# Altium schematic symbol library ECP5_V2.SchLib: 32 symbols (part 1 of 2)
Pins are listed as number, name and electrical type; pins without a type are passive.

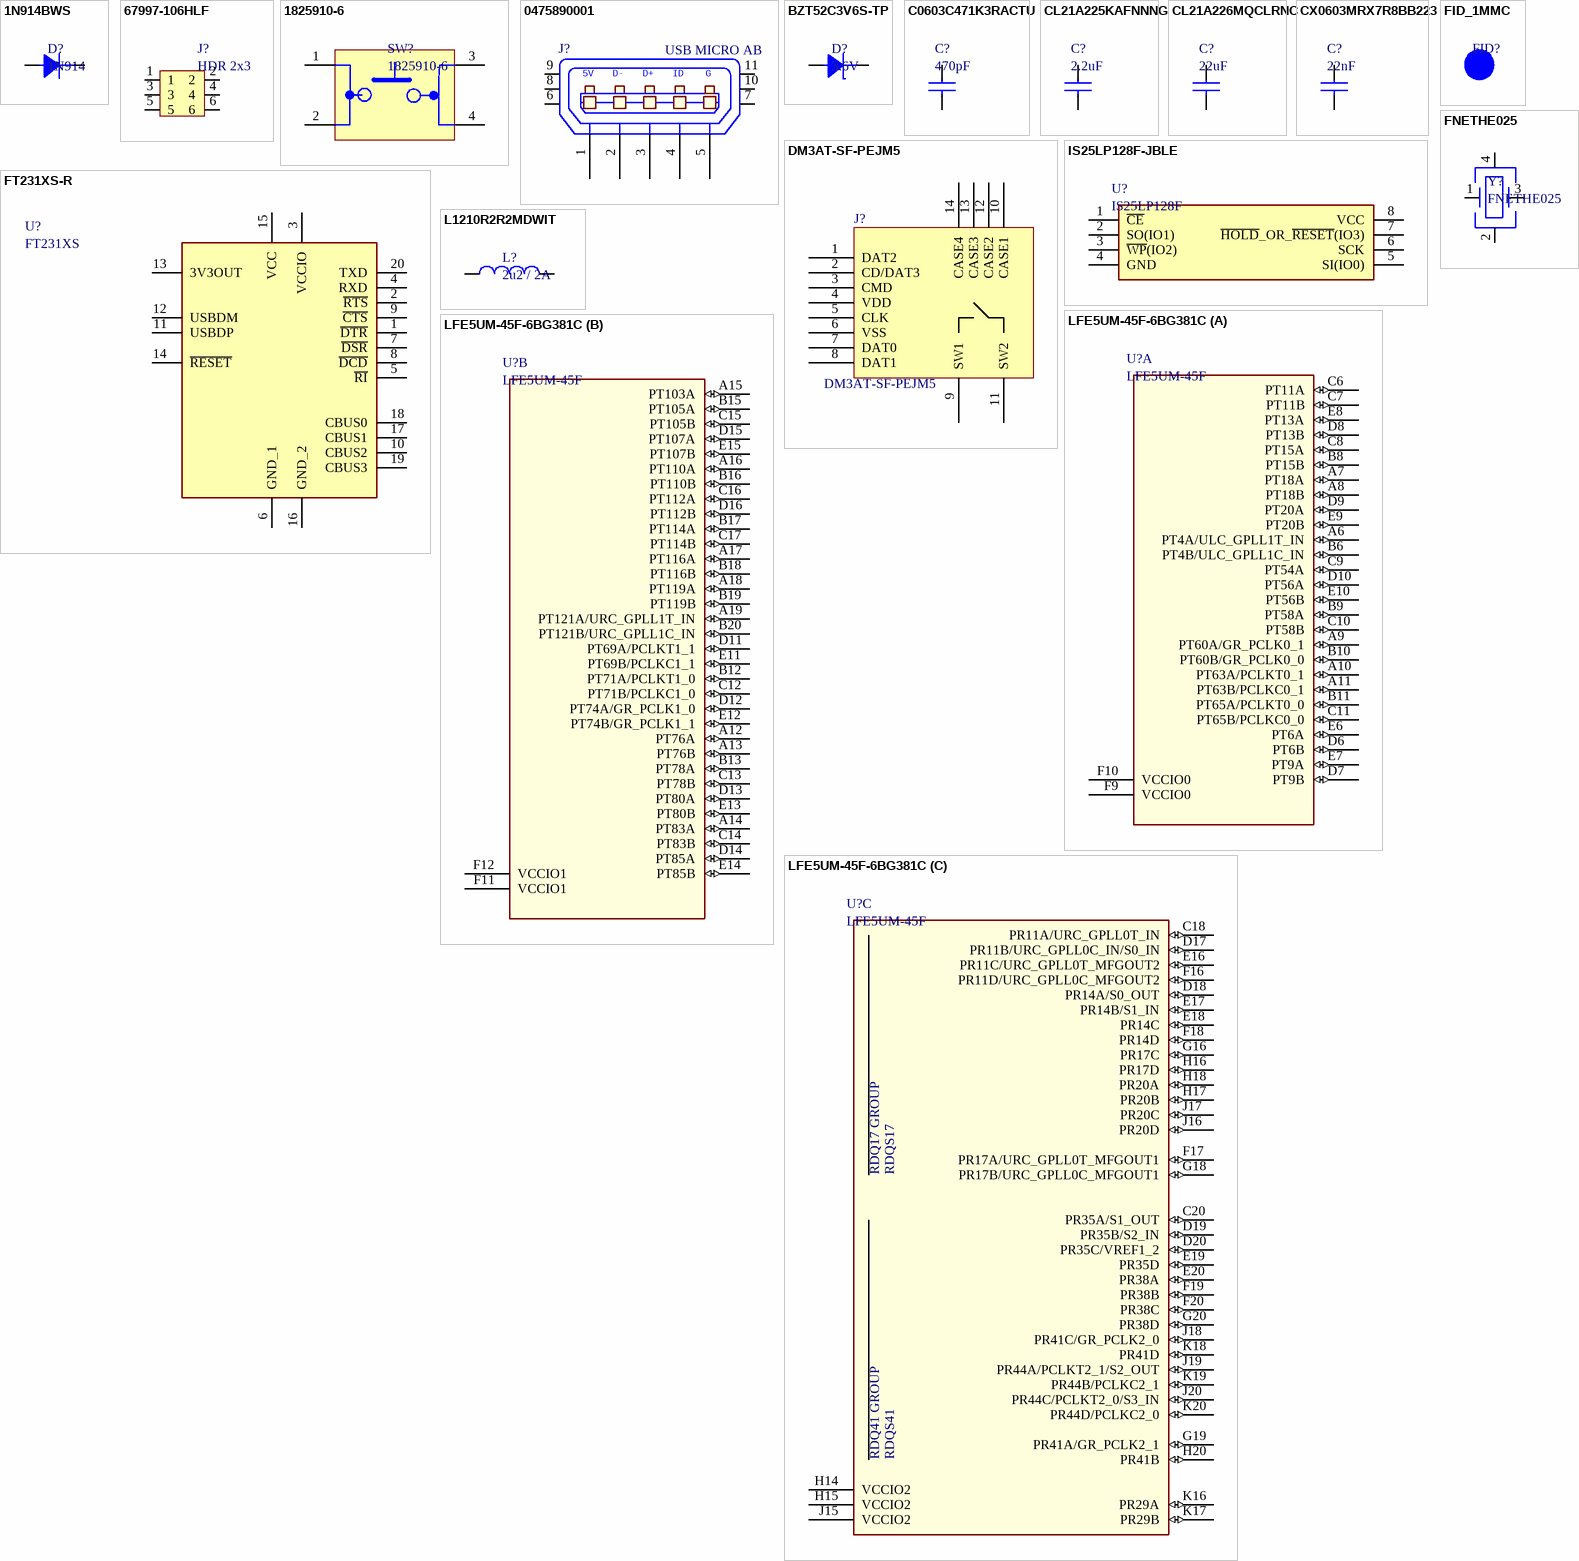
[diagram p0: symbols 1N914BWS to LFE5UM-45F-6BG381C]

## 1N914BWS
designator D?, comment 1N914
ON SEMICONDUCTOR/FAIRCHILD - 1N914BWS. - SMALL SIGNAL DIODE; Forward Current: 150mA; Peak Reverse Current: 5uA; Max Repetitive Reverse Voltage (Vrrm): 75V; Element Configuration: Single; Forward Voltage: 1V; Power Dissipation: 200mW; Reverse Recovery Time: 4ns; Max Forward Surge Current (Ifsm): 4A; Supplier 1: Digi-Key; Manufacturer: ON Semiconductor / Fairchild; Manufacturer Part Number: 1N914BWS; Stock 1: 133438; Pricing 1: 1=0.16, 10=0.147, 25=0.14, 100=0.0616, 250=0.05912, 500=0.04838, 1000=0.0336 (USD); Mount: Surface Mount; Number of Pins: 2; Weight: 0.0276g; Contact Plating: Tin,Matte; Min Operating Temperature: -55°C; Max Operating Temperature: 150°C; Packaging: Tape and Reel; Package Quantity: 1; Average Rectified Current: 150mA; Max Reverse Voltage (DC): 75V; Reverse Voltage: 75V; Recovery Time: 4ns; Length: 1.8mm; Height: 1mm; Width: 1.35mm; Radiation Hardening: No; Lead Free: Lead Free; REACH SVHC: No SVHC; ComponentLink1URL: https://www.fairchildsemi.com/datasheets/1N/1N4148WS.pdf?src-supplier=Digi-Key; ComponentLink1Description: https://www.fairchildsemi.com/datasheets/1N/1N4148WS.pdf?src-supplier=Digi-Key; ComponentLink2URL: https://www.onsemi.com/pub/Collateral/1N914BWS-D.pdf?src-supplier=Digi-Key; ComponentLink2Description: https://www.onsemi.com/pub/Collateral/1N914BWS-D.pdf?src-supplier=Digi-Key; ComponentLink3URL: http://www.fairchildsemi.com/ds/1N/1N914BWS.pdf?src-supplier=Future+Electronics; ComponentLink3Description: http://www.fairchildsemi.com/ds/1N/1N914BWS.pdf?src-supplier=Future+Electronics; ComponentLink4URL: http://www.farnell.com/datasheets/1771770.pdf?src-supplier=Element14; ComponentLink4Description: http://www.farnell.com/datasheets/1771770.pdf?src-supplier=Element14; ComponentLink5URL: https://www.fairchildsemi.com/datasheets/1N/1N914BWS.pdf?src-supplier=Avnet; ComponentLink5Description: https://www.fairchildsemi.com/datasheets/1N/1N914BWS.pdf?src-supplier=Avnet; ComponentLink6URL: http://www.fairchildsemi.com/ds/1N/1N914BWS.pdf?src-supplier=Avnet+Europe; ComponentLink6Description: http://www.fairchildsemi.com/ds/1N/1N914BWS.pdf?src-supplier=Avnet+Europe; Supplier Part Number 1: 1N914BWSDKR-ND
footprint SOD323
pins: 1 Cathode, 2 Anode

## 67997-106HLF
designator J?, comment HDR 2x3
CONN HEADER VERT 6POS 2.54MM; Manufacturer: Amphenol FCI; Manufacturer Part Number: 67997-106HLF; Number of Contacts: 6; Current Rating: 3A; Voltage Rating: 1.5kV; Insulation Resistance: 5GR; Gender: Male; Connector Type: Male Pin; Row Spacing: 0.1inch; Contact Post Length: 3.05mm; Supplier 1: Digi-Key; Stock 1: 906; Pricing 1: 1=1.73, 10=1.568, 100=1.3436, 500=1.11966, 1000=0.9597, 5000=0.85093, 10000=0.83174 (USD); Mount: Through Hole; Contact Plating: Gold,GXT; Contact Material: Bronze; Color: Black; Housing Color: Black; Housing Material: Thermoplastic; Min Operating Temperature: -65°C; Max Operating Temperature: 125°C; Number of Rows: 2; Termination: Through Hole; Packaging: Bulk; Package Quantity: 100; Contact Gender: Male; Number of Positions: 6; Max Voltage Rating (AC): 1.5kV; Orientation: Straight; Length: 7.62mm; Pitch: 2.54mm; Contact Mating Length: 0.23inch; Depth: 4.83mm; Radiation Hardening: No; REACH SVHC: No SVHC; Lead Free: Lead Free; Flammability Rating: UL94 V-0; ComponentLink1URL: https://cdn.amphenol-icc.com/media/wysiwyg/files/drawing/67996.pdf?src-supplier=Avnet; ComponentLink1Description: https://cdn.amphenol-icc.com/media/wysiwyg/files/drawing/67996.pdf?src-supplier=Avnet; ComponentLink2URL: https://cdn.amphenol-icc.com/media/wysiwyg/files/drawing/67996.pdf?src-supplier=Digi-Key; ComponentLink2Description: https://cdn.amphenol-icc.com/media/wysiwyg/files/drawing/67996.pdf?src-supplier=Digi-Key; ComponentLink3URL: https://cdn.amphenol-icc.com/media/wysiwyg/files/drawing/67996.pdf?src-supplier=Mouser; ComponentLink3Description: https://cdn.amphenol-icc.com/media/wysiwyg/files/drawing/67996.pdf?src-supplier=Mouser; ComponentLink4URL: https://cdn.amphenol-icc.com/media/wysiwyg/files/drawing/67996.pdf?src-supplier=Avnet+Europe; ComponentLink4Description: https://cdn.amphenol-icc.com/media/wysiwyg/files/drawing/67996.pdf?src-supplier=Avnet+Europe; Supplier Part Number 1: 609-3393-ND
footprint HDR_2x3_2.54MM
pins: 1, 2, 3, 4, 5, 6

## 1825910-6
designator SW?
ALCOSWITCH - TE CONNECTIVITY - 1825910-6 - TACT SWITCH, SPST, 0.05A, 24VDC, SOLDER; Manufacturer: TE Connectivity Alcoswitch; Actuator Material: PBT; Mechanical Life: 100000Cycles; Operating Force: 160gf; Illumination Type: Non-Illuminated,Illuminated; Switch Travel: 0.25mm; Switch Function: Off-Mom; Actuator Type: Standard; Max Voltage Rating (DC): 24V; Contact Current Rating: 50mA; Contact Resistance: 100mR; Actuator Length: 0.055inch; Supplier 1: Digi-Key; Manufacturer Part Number: 1825910-6; Stock 1: 40831; Pricing 1: 1=0.1, 10=0.101, 25=0.0976, 50=0.094, 100=0.0888, 250=0.08352, 500=0.08006, 1000=0.06091, 5000=0.05047 (USD); Mount: Through Hole; Contact Material: Copper Alloy; Contact Plating: Silver; Min Operating Temperature: -35°C; Max Operating Temperature: 85°C; Termination: PC Pins; Throw Configuration: SPST; Package Quantity: 750; Packaging: Loose Piece; Orientation: Straight; Electrical Life: 100000Cycles; Type: Switch; Max Current Rating: 50mA; Length: 5.99mm; REACH SVHC: Unknown; ELV: Compliant; Lead Free: Lead Free; ComponentLink1URL: http://www.onlinecomponents.com/productFiles/mf-AMP/1825910-6rqpn1825910-6.pdf?src-supplier=Onlinecomponents.com; ComponentLink1Description: http://www.onlinecomponents.com/productFiles/mf-AMP/1825910-6rqpn1825910-6.pdf?src-supplier=Onlinecomponents.com; ComponentLink2URL: http://www.te.com/commerce/DocumentDelivery/DDEController?Action=srchrtrv&DocNm=1825910&DocType=Customer+Drawing&DocLang=English&src-supplier=Verical; ComponentLink2Description: http://www.te.com/commerce/DocumentDelivery/DDEController?Action=srchrtrv&DocNm=1825910&DocType=Customer+Drawing&DocLang=English&src-supplier=Verical; Supplier Part Number 1: 450-1650-ND
footprint 1825910-6
pins: 1, 2, 3, 4

## 0475890001
designator J?, comment USB MICRO AB
CONN RCPT MICRO USB AB R/A SMD; Manufacturer: Molex Inc; Manufacturer Part Number: 0475890001; Connector Type: USB - micro AB; Number of Contacts: 5; Gender: Receptacle; .Creator: MM; Supplier 1: Digi-Key; RoHS: RoHS Compliant; Category: Connectors, Interconnects; Stock 1: 12754; Pricing 1: 1=0.81, 10=0.764, 25=0.6872, 50=0.6108, 100=0.5854, 250=0.53452, 500=0.50908 (USD); Packaging: Cut Tape (CT); Specifications: -; Mounting Type: Surface Mount, Right Angle, Horizontal; Features: Board Guide, Shielded; Ingress Protection: -; ComponentLink1URL: http://www.molex.com/pdm_docs/sd/475890001_sd.pdf; ComponentLink1Description: http://www.molex.com/pdm_docs/sd/475890001_sd.pdf; Supplier Part Number 1: WM17143CT-ND; .Checked PCB: MM; .Checked SCH: MM
footprint USB_Micro_AB (Creator MM)
pins: 1 P1, 2 P2, 3 P3, 4 P4, 5 P5, 6, 7, 8, 9, 10, 11
text: 5V; D-; D+; ID; G

## BZT52C3V6S-TP
designator D?, comment 3.6V
Diode Zener Single 3.6V 5% 200mW 2-Pin SOD-323 T/R; Manufacturer: MCC; Manufacturer Part Number: BZT52C3V6S-TP; Tolerance: 6%; Impedance: 90R; Max Reverse Leakage Current: 15uA; Test Current: 5mA; Supplier 1: Digi-Key; Stock 1: 5023; Pricing 1: 1=0.26, 10=0.215, 25=0.18, 100=0.088, 250=0.0866, 500=0.0734, 1000=0.051 (USD); Mount: Surface Mount; Number of Pins: 2; Min Operating Temperature: -65°C; Max Operating Temperature: 175°C; Package Quantity: 3000; Packaging: Tape and Reel; Zener Voltage: 3.6V; Max Power Dissipation: 200mW; Power Dissipation: 200mW; Voltage Tolerance: 5%; Element Configuration: Single; Power Rating: 200mW; Voltage Rating (DC): 3.6V; Lead Free: Lead Free; ComponentLink1URL: http://www.mccsemi.com/up_pdf/BZT52C2V4S~BZT52C39S(200mW)(SOD323).pdf?src-supplier=Digi-Key; ComponentLink1Description: http://www.mccsemi.com/up_pdf/BZT52C2V4S~BZT52C39S(200mW)(SOD323).pdf?src-supplier=Digi-Key; ComponentLink2URL: http://www.mouser.com/ds/2/258/BZT52C2V4S~BZT52C39S(200mW)(SOD323)-479732.pdf?src-supplier=Mouser; ComponentLink2Description: http://www.mouser.com/ds/2/258/BZT52C2V4S~BZT52C39S(200mW)(SOD323)-479732.pdf?src-supplier=Mouser; ComponentLink3URL: http://components.arrow.com/part/dataview/45991456S304003N2022?src-supplier=Arrow; ComponentLink3Description: http://components.arrow.com/part/dataview/45991456S304003N2022?src-supplier=Arrow; Supplier Part Number 1: BZT52C3V6S-TPMSDKR-ND
footprint SOD323
pins: 1 Cathode, 2 Anode

## C0603C471K3RACTU
designator C?, comment 470pF
KEMET - C0603C471K3RACTU - SMD Multilayer Ceramic Capacitor, 470 pF, 25 V, 0603 [1608 Metric], ± 10%, X7R, C Series KEMET; Voltage Rating: 25V; Supplier 1: Digi-Key; Manufacturer: KEMET; Manufacturer Part Number: C0603C471K3RACTU; Stock 1: 28906; Pricing 1: 1=0.1, 10=0.067, 100=0.0298, 500=0.02126, 1000=0.0167 (USD); Mount: Surface Mount; Case/Package: 0603; Case Code (Metric): 1608; Case Code (Imperial): 0603; Dielectric Material: Ceramic; Min Operating Temperature: -55°C; Max Operating Temperature: 125°C; Package Quantity: 4000; Capacitance: 470pF; Tolerance: 10%; Packaging: Tape and Reel; Voltage Rating (DC): 25V; Dielectric: X7R; Termination: SMD/SMT; Length: 1.6mm; Height: 0.8mm; Width: 0.031inch; Thickness: 0.034inch; Lead Pitch: 0.7mm; Depth: 0.8mm; Radiation Hardening: No; REACH SVHC: No SVHC; ComponentLink1URL: http://www.farnell.com/datasheets/2064971.pdf?src-supplier=Element14; ComponentLink1Description: http://www.farnell.com/datasheets/2064971.pdf?src-supplier=Element14; ComponentLink2URL: http://www.farnell.com/datasheets/2746078.pdf?src-supplier=Farnell; ComponentLink2Description: http://www.farnell.com/datasheets/2746078.pdf?src-supplier=Farnell; ComponentLink3URL: https://api.kemet.com/component-edge/download/datasheet/C0603C471K3RACTU.pdf?src-supplier=Digi-Key; ComponentLink3Description: https://api.kemet.com/component-edge/download/datasheet/C0603C471K3RACTU.pdf?src-supplier=Digi-Key; ComponentLink4URL: http://components.arrow.com/part/dataview/2089229S9467247N7429?src-supplier=Arrow; ComponentLink4Description: http://components.arrow.com/part/dataview/2089229S9467247N7429?src-supplier=Arrow; ComponentLink5URL: http://www.mouser.com/ds/2/212/KEM_C1002_X7R_SMD-1102033.pdf?src-supplier=Mouser; ComponentLink5Description: http://www.mouser.com/ds/2/212/KEM_C1002_X7R_SMD-1102033.pdf?src-supplier=Mouser; ComponentLink6URL: http://www.farnell.com/datasheets/2746078.pdf?src-supplier=Newark; ComponentLink6Description: http://www.farnell.com/datasheets/2746078.pdf?src-supplier=Newark; ComponentLink7URL: http://components.arrow.com/part/dataview/0323_00323242?src-supplier=Arrow+Europe; ComponentLink7Description: http://components.arrow.com/part/dataview/0323_00323242?src-supplier=Arrow+Europe; Supplier Part Number 1: 399-9086-6-ND
footprint C0603
pins: 1, 2

## CL21A225KAFNNNG
designator C?, comment 2.2uF
Ceramic capacitor SMD 0805 2.2 µF 25 V 10 %; Manufacturer: Samsung; Manufacturer Part Number: CL21A225KAFNNNG; Voltage Rating: 25V; Tolerance: 10%; Supplier 1: Digi-Key; Stock 1: 303381; Pricing 1: 1=0.15, 10=0.11, 100=0.0517, 500=0.03626, 1000=0.03002 (USD); Mount: Surface Mount; Case/Package: 0805; Case Code (Metric): 2012; Case Code (Imperial): 0805; Material: Ceramic; Min Operating Temperature: -55°C; Max Operating Temperature: 85°C; Package Quantity: 3000; Packaging: Tape and Reel; Capacitance: 2.2uF; Length: 0.079inch; Width: 0.049inch; Thickness: 0.053inch; ComponentLink1URL: http://www.samsungsem.com/global/support/library/product-catalog/__icsFiles/afieldfile/2014/11/13/MLCC.pdf?src-supplier=Digi-Key; ComponentLink1Description: http://www.samsungsem.com/global/support/library/product-catalog/__icsFiles/afieldfile/2014/11/13/MLCC.pdf?src-supplier=Digi-Key; ComponentLink2URL: https://produktinfo.conrad.com/datenblaetter/450000-474999/455579-da-01-en-VS_KONDENSATOR_0805.pdf?src-supplier=Conrad; ComponentLink2Description: https://produktinfo.conrad.com/datenblaetter/450000-474999/455579-da-01-en-VS_KONDENSATOR_0805.pdf?src-supplier=Conrad; Supplier Part Number 1: 1276-6458-6-ND
footprint C0805
pins: 1, 2

## CL21A226MQCLRNC
designator C?, comment 22uF
CAP CER 22UF 6.3V X5R 0805; Manufacturer: Samsung; Manufacturer Part Number: CL21A226MQCLRNC; Tolerance: 20%; Supplier 1: Digi-Key; Stock 1: 271195; Pricing 1: 1=0.36, 10=0.247, 100=0.1484, 500=0.11132, 1000=0.09401 (USD); Mount: Surface Mount; Case/Package: 0805; Case Code (Metric): 2012; Case Code (Imperial): 0805; Min Operating Temperature: -55°C; Max Operating Temperature: 85°C; Capacitance: 22uF; Dielectric: X5R; Package Quantity: 1; Packaging: Tape and Reel; Voltage Rating: 6.3V; Length: 2mm; Height: 0.85mm; Depth: 1.25mm; Width: 0.049inch; Thickness: 0.037inch; Radiation Hardening: No; Lead Free: Lead Free; ComponentLink1URL: http://www.samsungsem.com/kr/support/product-search/mlcc/CL21A226MQCLRNC.jsp?src-supplier=Digi-Key; ComponentLink1Description: http://www.samsungsem.com/kr/support/product-search/mlcc/CL21A226MQCLRNC.jsp?src-supplier=Digi-Key; Supplier Part Number 1: 1276-2413-6-ND
footprint C0805
pins: 1, 2

## CX0603MRX7R8BB223
designator C?, comment 22nF
Feed Through Capacitors 22nF X7R 20% 25V; Manufacturer: Yageo; Manufacturer Part Number: CX0603MRX7R8BB223; Supplier 1: Digi-Key; Stock 1: 11069; Pricing 1: 1=0.92, 10=0.676, 100=0.4636, 500=0.36702, 1000=0.30907 (USD); Mount: Surface Mount; Case/Package: 0603; Number of Pins: 2; Case Code (Metric): 1608; Case Code (Imperial): 0603; Min Operating Temperature: -55°C; Max Operating Temperature: 125°C; Capacitance: 22nF; Tolerance: 20%; Voltage Rating: 25V; Package Quantity: 1; Packaging: Tape and Reel; Voltage Rating (DC): 25V; Dielectric: X7R; Termination: SMD/SMT; Length: 0.063inch; Height: 0.65mm; Width: 0.034inch; Thickness: 0.03inch; REACH SVHC: No SVHC; Lead Free: Lead Free; ComponentLink1URL: http://www.yageo.com/NewPortal/_en/search/productDocs.jsp?YageoPartNumber=CX0603MRX7R8BB223&src-supplier=Digi-Key; ComponentLink1Description: http://www.yageo.com/NewPortal/_en/search/productDocs.jsp?YageoPartNumber=CX0603MRX7R8BB223&src-supplier=Digi-Key; Supplier Part Number 1: 311-1234-6-ND
footprint C0603
pins: 1, 2

## DM3AT-SF-PEJM5
designator J?
CONN MICRO SD R/A PUSH-PUSH SMD; Manufacturer: Hirose Electric Co Ltd; .Checked PCB: MM; Connector Type: Connector and Ejector; Card Type: Secure Digital - microSD TransFlash; Number of Positions: 10 (8 + 2); Insertion, Removal Method: Push In, Push Out; .Checked SCH: MM; Category: Connectors, Interconnects; Supplier Part Number: HR1964CT-ND; Family: Memory - PC Card Connectors; Manufacturer Part Number: DM3AT-SF-PEJM5; Price 1k [$]: 1.85200; Supplier: Digikey; Supplier 1: Digi-Key; Supplier Part Number 1: HR1964CT-ND; RoHS: RoHS Compliant; Stock 1: 7044; Pricing 1: 1=2.96, 10=2.457, 50=2.0476, 100=1.82, 250=1.5106, 500=1.365 (USD); Ejector Side: -; Mounting Type: Surface Mount, Right Angle; Features: Switch; Height Above Board: 0.066" (1.68mm); Mounting Feature: Normal, Standard - Top; Packaging: Cut Tape (CT); Contact Finish: Gold; Contact Finish Thickness: -; ComponentLink1URL: http://www.hirose.co.jp/cataloge_hp/e60900232.pdf; ComponentLink1Description: http://www.hirose.co.jp/cataloge_hp/e60900232.pdf
footprint uSD_DM3AT (MM added 3D model & asmbly layer.)
pins: 1 DAT2, 2 CD/DAT3, 3 CMD, 4 VDD, 5 CLK, 6 VSS, 7 DAT0, 8 DAT1, 9 SW1, 10 CASE1, 11 SW2, 12 CASE2, 13 CASE3, 14 CASE4

## FID_1MMC
designator FID?  (value not drawn)  (no BOM)
Fiducial 40mil Diameter 120mil Mask
footprint FID_40x120D

## FNETHE025
designator Y?
SMD Crystal Oscillator 25MHz 3.3V 15pF 4-Pin CSMD; Manufacturer: Diodes; Frequency Stability: 25ppm; Max Supply Voltage: 3.63V; Min Supply Voltage: 2.97V; Max Supply Current: 15mA; Supplier 1: Digi-Key; Manufacturer Part Number: FNETHE025; Stock 1: 7023; Pricing 1: 1=1.1, 10=0.97, 50=0.9068, 100=0.8014, 500=0.75924 (USD); Mount: Surface Mount; Case/Package: CSMD; Number of Pins: 4; Min Operating Temperature: -20°C; Max Operating Temperature: 70°C; Frequency: 25MHz; Load Capacitance: 15pF; Operating Supply Voltage: 3.3V; Packaging: Tape and Reel; Package Quantity: 1000; Termination: SMD/SMT; Length: 7mm; Height: 0.061inch; Width: 0.197inch; Depth: 5mm; Radiation Hardening: No; Lead Free: Lead Free; ComponentLink1URL: http://www.pericom.com/assets/Datasheets/FNETHE025.pdf?src-supplier=Avnet+Europe; ComponentLink1Description: http://www.pericom.com/assets/Datasheets/FNETHE025.pdf?src-supplier=Avnet+Europe; ComponentLink2URL: https://www.verical.com/server-webapp/html/getDatasheet?partID=362555&src-supplier=Verical; ComponentLink2Description: https://www.verical.com/server-webapp/html/getDatasheet?partID=362555&src-supplier=Verical; ComponentLink3URL: http://www.pericom.com/assets/Datasheets/FNETHE025-Rev-E.pdf?src-supplier=Future+Electronics; ComponentLink3Description: http://www.pericom.com/assets/Datasheets/FNETHE025-Rev-E.pdf?src-supplier=Future+Electronics; ComponentLink4URL: https://www.diodes.com/assets/Datasheets/FNETHE025.pdf?src-supplier=Digi-Key; ComponentLink4Description: https://www.diodes.com/assets/Datasheets/FNETHE025.pdf?src-supplier=Digi-Key; ComponentLink5URL: https://media.digikey.com/pdf/Data%20Sheets/Diodes%20PDFs/FNETHE025.pdf?src-supplier=Digi-Key; ComponentLink5Description: https://media.digikey.com/pdf/Data%20Sheets/Diodes%20PDFs/FNETHE025.pdf?src-supplier=Digi-Key; ComponentLink6URL: http://www.pericom.com/assets/Datasheets/FNETHE025.pdf?src-supplier=Avnet; ComponentLink6Description: http://www.pericom.com/assets/Datasheets/FNETHE025.pdf?src-supplier=Avnet; Supplier Part Number 1: FNETHE025DKR-ND
footprint TSOP440P690X140-4N (TSOP, 4-Leads, Body 5.00x7.00mm, Pitch 4.40mm, IPC Medium Density)
pins: 1, 2, 3, 4

## FT231XS-R
designator U?, comment FT231XS
FTDI - FT231XS-R - USB Interface, Transceiver, USB 2.0, 2.97 V, 5.5 V, SSOP, 20 RoHS Compliant: Yes; Max Supply Voltage: 5.5V; Min Supply Voltage: 2.97V; Number of Channels: 1; Operating Supply Voltage: 5V; Data Rate: 12Mbps; Interface: UART,USB; Operating Supply Current: 8mA; Supplier 1: Digi-Key; Manufacturer: FTDI; Manufacturer Part Number: FT231XS-R; Stock 1: 6035; Pricing 1: 1=2.12, 25=2.05, 100=1.98, 250=1.78, 500=1.6, 1000=1.55 (USD); Mount: Surface Mount; Case/Package: SSOP; Number of Pins: 20; Weight: 0.016oz; Min Operating Temperature: -40°C; Max Operating Temperature: 85°C; Packaging: Tape and Reel; Package Quantity: 2000; Length: 8.74mm; Height: 0.059inch; Width: 0.157inch; Radiation Hardening: No; ComponentLink1URL: http://uk.rs-online.com/webdocs/1102/0900766b811020d3.pdf?src-supplier=RSComponents; ComponentLink1Description: http://uk.rs-online.com/webdocs/1102/0900766b811020d3.pdf?src-supplier=RSComponents; ComponentLink2URL: https://media.digikey.com/pdf/Data%20Sheets/FTDI%20Chip%20PDFs/X-Chip_Series_Errata.pdf?src-supplier=Digi-Key; ComponentLink2Description: https://media.digikey.com/pdf/Data%20Sheets/FTDI%20Chip%20PDFs/X-Chip_Series_Errata.pdf?src-supplier=Digi-Key; ComponentLink3URL: http://www.ftdichip.com/Support/Documents/DataSheets/ICs/DS_FT231X.pdf?src-supplier=Digi-Key; ComponentLink3Description: http://www.ftdichip.com/Support/Documents/DataSheets/ICs/DS_FT231X.pdf?src-supplier=Digi-Key; ComponentLink4URL: http://www.alliedelec.com/images/products/datasheets/bm/FTDI/70403932.pdf?src-supplier=Allied+Electronics; ComponentLink4Description: http://www.alliedelec.com/images/products/datasheets/bm/FTDI/70403932.pdf?src-supplier=Allied+Electronics; Supplier Part Number 1: 768-1129-6-ND
footprint SOP64P599X175-20N
pins: 1 ~{DTR}, 2 ~{RTS}, 3 VCCIO, 4 RXD, 5 ~{RI}, 6 GND_1, 7 ~{DSR}, 8 ~{DCD}, 9 ~{CTS}, 10 CBUS2, 11 USBDP, 12 USBDM, 13 3V3OUT, 14 ~{RESET}, 15 VCC, 16 GND_2, 17 CBUS1, 18 CBUS0, 19 CBUS3, 20 TXD

## IS25LP128F-JBLE
designator U?, comment IS25LP128F
IC FLASH 128M SPI 133MHZ 8SOIC; Manufacturer: ISSI; Manufacturer Part Number: IS25LP128F-JBLE; Memory Type: Non-Volatile,FLASH; Memory Size: 128Mb; Supplier 1: Digi-Key; Stock 1: 0; Pricing 1: 540=1.7662 (USD); Mount: Surface Mount; Case/Package: SOIC; Min Operating Temperature: -40°C; Max Operating Temperature: 105°C; Frequency: 133MHz; ComponentLink1URL: http://www.farnell.com/datasheets/2625717.pdf?src-supplier=Farnell; ComponentLink1Description: http://www.farnell.com/datasheets/2625717.pdf?src-supplier=Farnell; ComponentLink2URL: http://www.farnell.com/datasheets/2625717.pdf?src-supplier=Newark; ComponentLink2Description: http://www.farnell.com/datasheets/2625717.pdf?src-supplier=Newark; ComponentLink3URL: http://www.issi.com/WW/pdf/25LP-WP128F.pdf?src-supplier=Digi-Key; ComponentLink3Description: http://www.issi.com/WW/pdf/25LP-WP128F.pdf?src-supplier=Digi-Key; Supplier Part Number 1: IS25LP128F-JBLE-ND
footprint SOIC127P790X216-8N
pins: 1 ~{CE}, 2 SO(IO1), 3 ~{WP}(IO2), 4 GND, 5 SI(IO0), 6 SCK, 7 ~{HOLD}_OR_~{RESET}(IO3), 8 VCC

## L1210R2R2MDWIT
designator L?, comment 2u2 / 2A
FIXED IND 2.2UH 2A 80 MOHM SMD; Manufacturer: KEMET; Manufacturer Part Number: L1210R2R2MDWIT; Core Material: Ferrite; Tolerance: 20%; Shielding: Unshielded; Self Resonant Frequency: 190MHz; DC Resistance (DCR): 80mR; Test Frequency: 100kHz; DC Current: 1.13A; Supplier 1: Digi-Key; Stock 1: 2998; Pricing 1: 1=0.55, 10=0.479, 100=0.3421, 500=0.28738 (USD); Mount: Surface Mount; Case/Package: 1210; Case Code (Metric): 3225; Case Code (Imperial): 1210; Min Operating Temperature: -40°C; Max Operating Temperature: 105°C; Inductance: 2.2uH; Max DC Current: 2A; Package Quantity: 1000; Current Rating: 2A; Packaging: Tape and Reel; Inductance Tolerance: 20%; Composition: Wirewound,Ceramic; Termination: SMD/SMT; Military Standard: Not; Length: 0.126inch; Height: 2.5mm; Width: 0.098inch; Height - Seated (Max): 0.106inch; Depth: 2.7mm; Radiation Hardening: No; REACH SVHC: No SVHC; ComponentLink1URL: https://content.kemet.com/datasheets/F3115.pdf?src-supplier=Mouser; ComponentLink1Description: https://content.kemet.com/datasheets/F3115.pdf?src-supplier=Mouser; ComponentLink2URL: https://content.kemet.com/datasheets/F3115.pdf?src-supplier=Avnet+Europe; ComponentLink2Description: https://content.kemet.com/datasheets/F3115.pdf?src-supplier=Avnet+Europe; ComponentLink3URL: http://www.farnell.com/datasheets/27262.pdf?src-supplier=Element14; ComponentLink3Description: http://www.farnell.com/datasheets/27262.pdf?src-supplier=Element14; ComponentLink4URL: https://api.kemet.com/component-edge/download/datasheet/L1210R2R2MDWIT.pdf?src-supplier=Digi-Key; ComponentLink4Description: https://api.kemet.com/component-edge/download/datasheet/L1210R2R2MDWIT.pdf?src-supplier=Digi-Key; ComponentLink5URL: http://www.kemet.com/Lists/ProductCatalog/Attachments/57/F3115.pdf?src-supplier=Avnet; ComponentLink5Description: http://www.kemet.com/Lists/ProductCatalog/Attachments/57/F3115.pdf?src-supplier=Avnet; Supplier Part Number 1: 399-9598-6-ND
footprint C1210_IND
pins: 1, 2

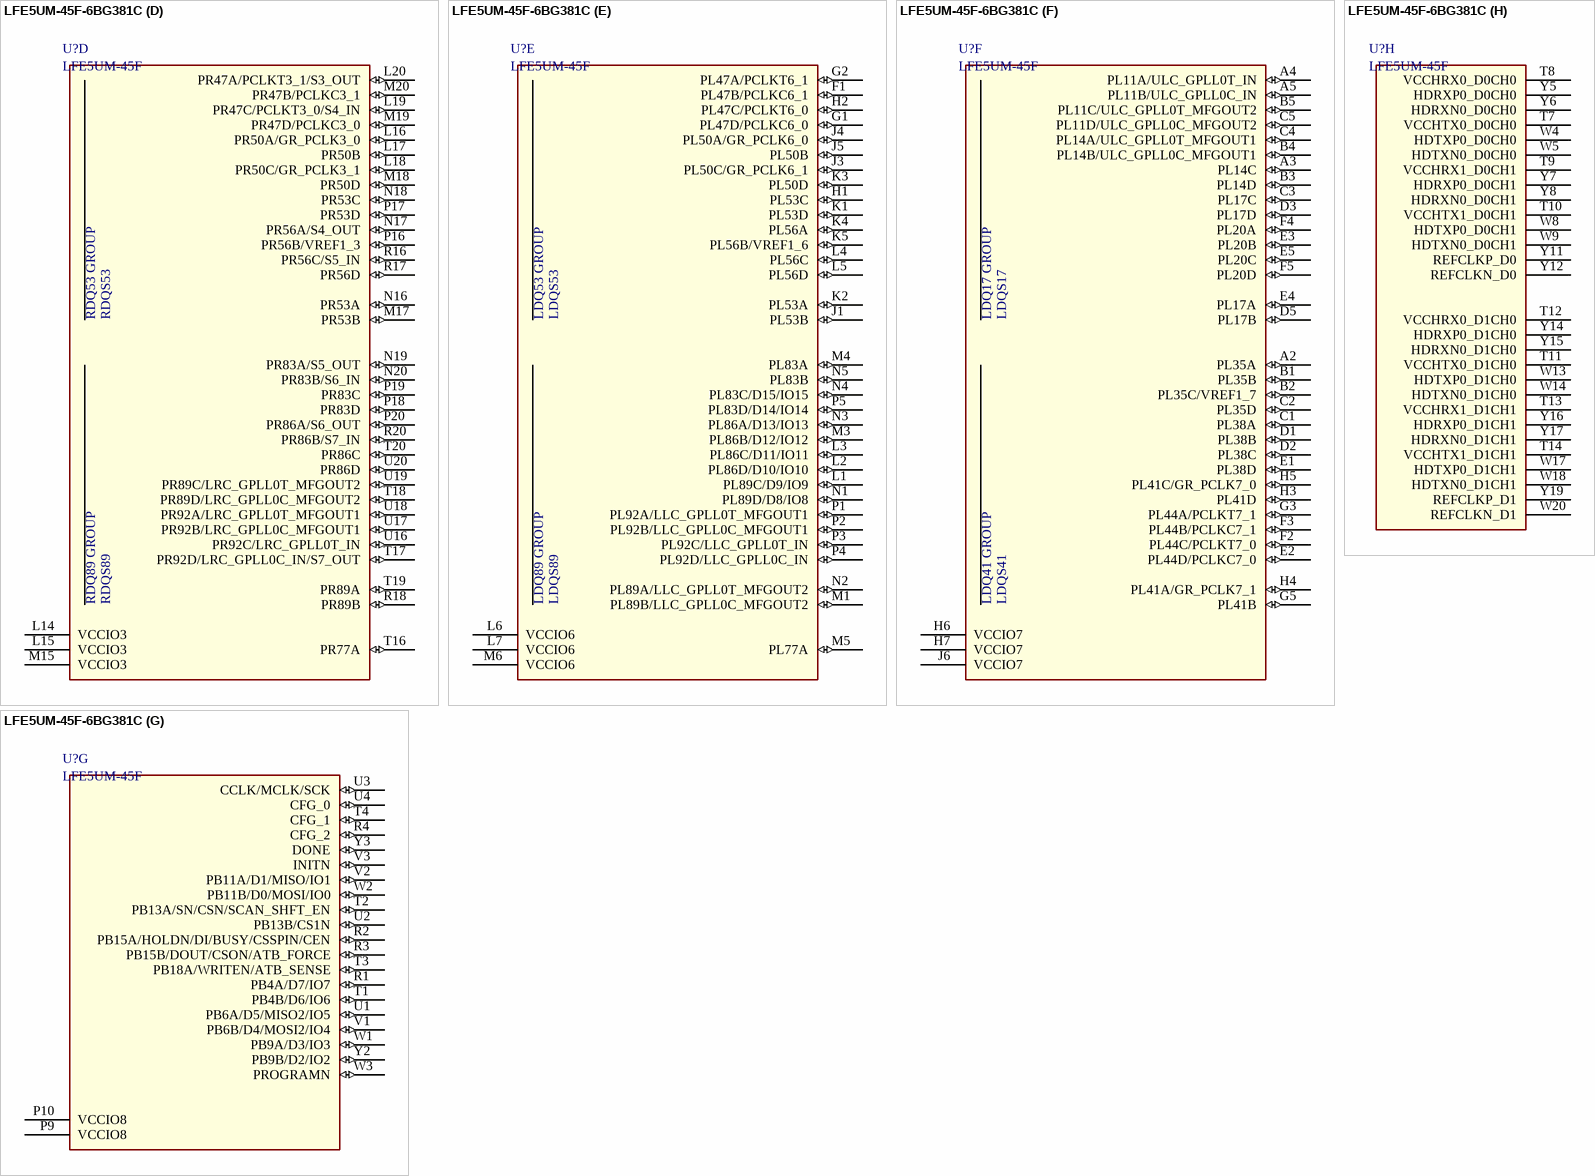
[diagram p1: symbol LFE5UM-45F-6BG381C]

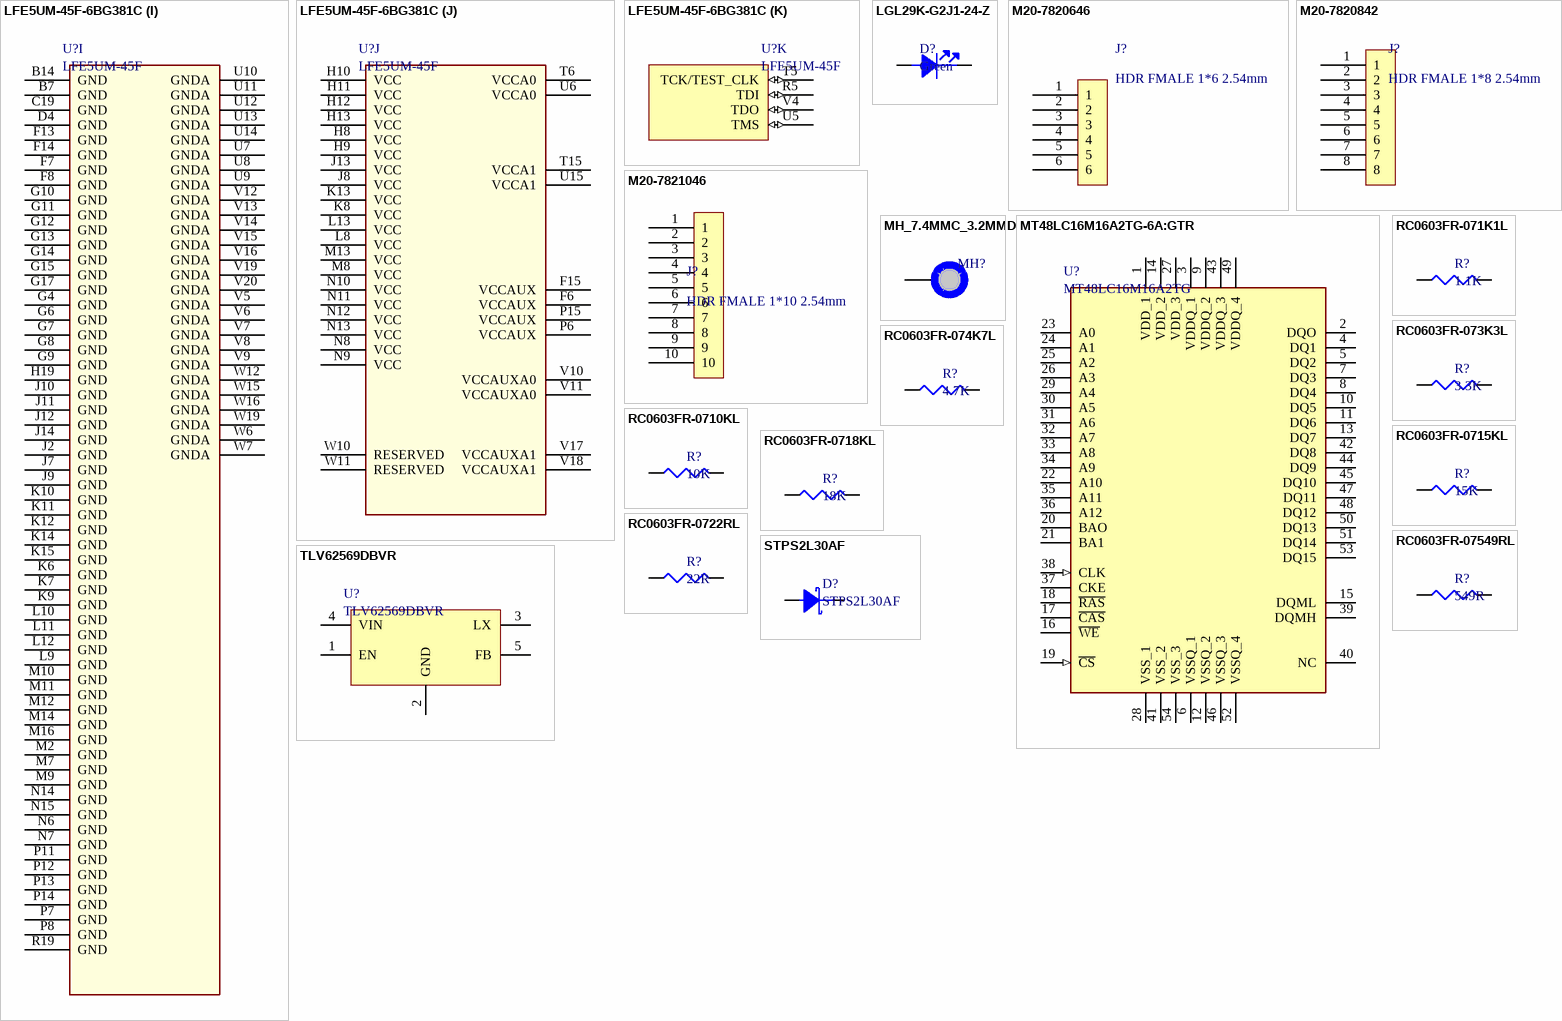
[diagram p2: symbols LFE5UM-45F-6BG381C to TLV62569DBVR]

## LFE5UM-45F-6BG381C
designator U?, comment LFE5UM-45F
ECP5 Series 44 K LUTs 203 I/O 1.1 V Slow Surface Mount FPGA - CABGA-381; Manufacturer: Lattice Semiconductor; Manufacturer Part Number: LFE5UM-45F-6BG381C; Number of Logic Blocks (LABs): 11000; Number of Logic Elements/Cells: 44000; RAM Size: 1990656b; Number of I/Os: 203; Supplier 1: Digi-Key; Stock 1: 0; Pricing 1: 90=19.13967 (USD); Mount: Surface Mount; Case/Package: FBGA; Min Operating Temperature: 0°C; Max Operating Temperature: 85°C; Lead Free: Lead Free; ComponentLink1URL: http://www.latticesemi.com/~/media/LatticeSemi/Documents/DataSheets/ECP5/DS1044.pdf?src-supplier=Digi-Key; ComponentLink1Description: http://www.latticesemi.com/~/media/LatticeSemi/Documents/DataSheets/ECP5/DS1044.pdf?src-supplier=Digi-Key; Supplier Part Number 1: 220-1994-ND
footprint LFE5BG381
part A pins: A6 PT4A/ULC_GPLL1T_IN (io), A7 PT18A (io), A8 PT18B (io), A9 PT60A/GR_PCLK0_1 (io), A10 PT63A/PCLKT0_1 (io), A11 PT63B/PCLKC0_1 (io), B6 PT4B/ULC_GPLL1C_IN (io), B8 PT15B (io), B9 PT58A (io), B10 PT60B/GR_PCLK0_0 (io), B11 PT65A/PCLKT0_0 (io), C6 PT11A (io), C7 PT11B (io), C8 PT15A (io), C9 PT54A (io), C10 PT58B (io), C11 PT65B/PCLKC0_0 (io), D6 PT6B (io), D7 PT9B (io), D8 PT13B (io), D9 PT20A (io), D10 PT56A (io), E6 PT6A (io), E7 PT9A (io), E8 PT13A (io), E9 PT20B (io), E10 PT56B (io), F9 VCCIO0 (power), F10 VCCIO0 (power)
part B pins: A12 PT76A (io), A13 PT76B (io), A14 PT83A (io), A15 PT103A (io), A16 PT110A (io), A17 PT116A (io), A18 PT119A (io), A19 PT121A/URC_GPLL1T_IN (io), B12 PT71A/PCLKT1_0 (io), B13 PT78A (io), B15 PT105A (io), B16 PT110B (io), B17 PT114A (io), B18 PT116B (io), B19 PT119B (io), B20 PT121B/URC_GPLL1C_IN (io), C12 PT71B/PCLKC1_0 (io), C13 PT78B (io), C14 PT83B (io), C15 PT105B (io), C16 PT112A (io), C17 PT114B (io), D11 PT69A/PCLKT1_1 (io), D12 PT74A/GR_PCLK1_0 (io), D13 PT80A (io), D14 PT85A (io), D15 PT107A (io), D16 PT112B (io), E11 PT69B/PCLKC1_1 (io), E12 PT74B/GR_PCLK1_1 (io), E13 PT80B (io), E14 PT85B (io), E15 PT107B (io), F11 VCCIO1 (power), F12 VCCIO1 (power)
part C pins: C18 PR11A/URC_GPLL0T_IN (io), C20 PR35A/S1_OUT (io), D17 PR11B/URC_GPLL0C_IN/S0_IN (io), D18 PR14A/S0_OUT (io), D19 PR35B/S2_IN (io), D20 PR35C/VREF1_2 (io), E16 PR11C/URC_GPLL0T_MFGOUT2 (io), E17 PR14B/S1_IN (io), E18 PR14C (io), E19 PR35D (io), E20 PR38A (io), F16 PR11D/URC_GPLL0C_MFGOUT2 (io), F17 PR17A/URC_GPLL0T_MFGOUT1 (io), F18 PR14D (io), F19 PR38B (io), F20 PR38C (io), G16 PR17C (io), G18 PR17B/URC_GPLL0C_MFGOUT1 (io), G19 PR41A/GR_PCLK2_1 (io), G20 PR38D (io), H14 VCCIO2 (power), H15 VCCIO2 (power), H16 PR17D (io), H17 PR20B (io), H18 PR20A (io), H20 PR41B (io), J15 VCCIO2 (power), J16 PR20D (io), J17 PR20C (io), J18 PR41C/GR_PCLK2_0 (io), J19 PR44A/PCLKT2_1/S2_OUT (io), J20 PR44C/PCLKT2_0/S3_IN (io), K16 PR29A (io), K17 PR29B (io), K18 PR41D (io), K19 PR44B/PCLKC2_1 (io), K20 PR44D/PCLKC2_0 (io)
part D pins: L14 VCCIO3 (power), L15 VCCIO3 (power), L16 PR50A/GR_PCLK3_0 (io), L17 PR50B (io), L18 PR50C/GR_PCLK3_1 (io), L19 PR47C/PCLKT3_0/S4_IN (io), L20 PR47A/PCLKT3_1/S3_OUT (io), M15 VCCIO3 (power), M17 PR53B (io), M18 PR50D (io), M19 PR47D/PCLKC3_0 (io), M20 PR47B/PCLKC3_1 (io), N16 PR53A (io), N17 PR56A/S4_OUT (io), N18 PR53C (io), N19 PR83A/S5_OUT (io), N20 PR83B/S6_IN (io), P16 PR56B/VREF1_3 (io), P17 PR53D (io), P18 PR83D (io), P19 PR83C (io), P20 PR86A/S6_OUT (io), R16 PR56C/S5_IN (io), R17 PR56D (io), R18 PR89B (io), R20 PR86B/S7_IN (io), T16 PR77A (io), T17 PR92D/LRC_GPLL0C_IN/S7_OUT (io), T18 PR89D/LRC_GPLL0C_MFGOUT2 (io), T19 PR89A (io), T20 PR86C (io), U16 PR92C/LRC_GPLL0T_IN (io), U17 PR92B/LRC_GPLL0C_MFGOUT1 (io), U18 PR92A/LRC_GPLL0T_MFGOUT1 (io), U19 PR89C/LRC_GPLL0T_MFGOUT2 (io), U20 PR86D (io)
part E pins: F1 PL47B/PCLKC6_1 (io), G1 PL47D/PCLKC6_0 (io), G2 PL47A/PCLKT6_1 (io), H1 PL53C (io), H2 PL47C/PCLKT6_0 (io), J1 PL53B (io), J3 PL50C/GR_PCLK6_1 (io), J4 PL50A/GR_PCLK6_0 (io), J5 PL50B (io), K1 PL53D (io), K2 PL53A (io), K3 PL50D (io), K4 PL56A (io), K5 PL56B/VREF1_6 (io), L1 PL89C/D9/IO9 (io), L2 PL86D/D10/IO10 (io), L3 PL86C/D11/IO11 (io), L4 PL56C (io), L5 PL56D (io), L6 VCCIO6 (power), L7 VCCIO6 (power), M1 PL89B/LLC_GPLL0C_MFGOUT2 (io), M3 PL86B/D12/IO12 (io), M4 PL83A (io), M5 PL77A (io), M6 VCCIO6 (power), N1 PL89D/D8/IO8 (io), N2 PL89A/LLC_GPLL0T_MFGOUT2 (io), N3 PL86A/D13/IO13 (io), N4 PL83C/D15/IO15 (io), N5 PL83B (io), P1 PL92A/LLC_GPLL0T_MFGOUT1 (io), P2 PL92B/LLC_GPLL0C_MFGOUT1 (io), P3 PL92C/LLC_GPLL0T_IN (io), P4 PL92D/LLC_GPLL0C_IN (io), P5 PL83D/D14/IO14 (io)
part F pins: A2 PL35A (io), A3 PL14C (io), A4 PL11A/ULC_GPLL0T_IN (io), A5 PL11B/ULC_GPLL0C_IN (io), B1 PL35B (io), B2 PL35C/VREF1_7 (io), B3 PL14D (io), B4 PL14B/ULC_GPLL0C_MFGOUT1 (io), B5 PL11C/ULC_GPLL0T_MFGOUT2 (io), C1 PL38A (io), C2 PL35D (io), C3 PL17C (io), C4 PL14A/ULC_GPLL0T_MFGOUT1 (io), C5 PL11D/ULC_GPLL0C_MFGOUT2 (io), D1 PL38B (io), D2 PL38C (io), D3 PL17D (io), D5 PL17B (io), E1 PL38D (io), E2 PL44D/PCLKC7_0 (io), E3 PL20B (io), E4 PL17A (io), E5 PL20C (io), F2 PL44C/PCLKT7_0 (io), F3 PL44B/PCLKC7_1 (io), F4 PL20A (io), F5 PL20D (io), G3 PL44A/PCLKT7_1 (io), G5 PL41B (io), H3 PL41D (io), H4 PL41A/GR_PCLK7_1 (io), H5 PL41C/GR_PCLK7_0 (io), H6 VCCIO7 (power), H7 VCCIO7 (power), J6 VCCIO7 (power)
part G pins: P9 VCCIO8 (power), P10 VCCIO8 (power), R1 PB4A/D7/IO7 (io), R2 PB15A/HOLDN/DI/BUSY/CSSPIN/CEN (io), R3 PB15B/DOUT/CSON/ATB_FORCE (io), R4 CFG_2 (io), T1 PB4B/D6/IO6 (io), T2 PB13A/SN/CSN/SCAN_SHFT_EN (io), T3 PB18A/WRITEN/ATB_SENSE (io), T4 CFG_1 (io), U1 PB6A/D5/MISO2/IO5 (io), U2 PB13B/CS1N (io), U3 CCLK/MCLK/SCK (io), U4 CFG_0 (io), V1 PB6B/D4/MOSI2/IO4 (io), V2 PB11A/D1/MISO/IO1 (io), V3 INITN (io), W1 PB9A/D3/IO3 (io), W2 PB11B/D0/MOSI/IO0 (io), W3 PROGRAMN (io), Y2 PB9B/D2/IO2 (io), Y3 DONE (io)
part H pins: T7 VCCHTX0_D0CH0 (power), T8 VCCHRX0_D0CH0 (power), T9 VCCHRX1_D0CH1 (power), T10 VCCHTX1_D0CH1 (power), T11 VCCHTX0_D1CH0 (power), T12 VCCHRX0_D1CH0 (power), T13 VCCHRX1_D1CH1 (power), T14 VCCHTX1_D1CH1 (power), W4 HDTXP0_D0CH0, W5 HDTXN0_D0CH0 (power), W8 HDTXP0_D0CH1 (power), W9 HDTXN0_D0CH1 (power), W13 HDTXP0_D1CH0 (power), W14 HDTXN0_D1CH0 (power), W17 HDTXP0_D1CH1 (power), W18 HDTXN0_D1CH1 (power), W20 REFCLKN_D1 (power), Y5 HDRXP0_D0CH0 (power), Y6 HDRXN0_D0CH0 (power), Y7 HDRXP0_D0CH1 (power), Y8 HDRXN0_D0CH1 (power), Y11 REFCLKP_D0 (power), Y12 REFCLKN_D0 (power), Y14 HDRXP0_D1CH0 (power), Y15 HDRXN0_D1CH0 (power), Y16 HDRXP0_D1CH1 (power), Y17 HDRXN0_D1CH1 (power), Y19 REFCLKP_D1 (power)
part I pins: B7 GND (power), B14 GND (power), C19 GND (power), D4 GND (power), F7 GND (power), F8 GND (power), F13 GND (power), F14 GND (power), G4 GND (power), G6 GND (power), G7 GND (power), G8 GND (power), G9 GND (power), G10 GND (power), G11 GND (power), G12 GND (power), G13 GND (power), G14 GND (power), G15 GND (power), G17 GND (power), H19 GND (power), J2 GND (power), J7 GND (power), J9 GND (power), J10 GND (power), J11 GND (power), J12 GND (power), J14 GND (power), K6 GND (power), K7 GND (power), K9 GND (power), K10 GND (power), K11 GND (power), K12 GND (power), K14 GND (power), K15 GND (power), L9 GND (power), L10 GND (power), L11 GND (power), L12 GND (power), M2 GND (power), M7 GND (power), M9 GND (power), M10 GND (power), M11 GND (power), M12 GND (power), M14 GND (power), M16 GND (power), N6 GND (power), N7 GND (power), N14 GND (power), N15 GND (power), P7 GND (power), P8 GND (power), P11 GND (power), P12 GND (power), P13 GND (power), P14 GND (power), R19 GND (power), U7 GNDA (power), U8 GNDA (power), U9 GNDA (power), U10 GNDA (power), U11 GNDA (power), U12 GNDA (power), U13 GNDA (power), U14 GNDA (power), V5 GNDA (power), V6 GNDA (power), V7 GNDA (power), V8 GNDA (power), V9 GNDA (power), V12 GNDA (power), V13 GNDA (power), V14 GNDA (power), V15 GNDA (power), V16 GNDA (power), V19 GNDA (power), V20 GNDA (power), W6 GNDA (power), W7 GNDA (power), W12 GNDA (power), W15 GNDA (power), W16 GNDA (power), W19 GNDA (power)
part J pins: F6 VCCAUX (power), F15 VCCAUX (power), H8 VCC (power), H9 VCC (power), H10 VCC (power), H11 VCC (power), H12 VCC (power), H13 VCC (power), J8 VCC (power), J13 VCC (power), K8 VCC (power), K13 VCC (power), L8 VCC (power), L13 VCC (power), M8 VCC (power), M13 VCC (power), N8 VCC (power), N9 VCC (power), N10 VCC (power), N11 VCC (power), N12 VCC (power), N13 VCC (power), P6 VCCAUX (power), P15 VCCAUX (power), T6 VCCA0 (power), T15 VCCA1 (power), U6 VCCA0 (power), U15 VCCA1 (power), V10 VCCAUXA0 (power), V11 VCCAUXA0 (power), V17 VCCAUXA1 (power), V18 VCCAUXA1 (power), W10 RESERVED (power), W11 RESERVED (power)
part K pins: R5 TDI (io), T5 TCK/TEST_CLK (io), U5 TMS (io), V4 TDO (io)
part C text: RDQ17 GROUP; RDQS17; RDQ41 GROUP; RDQS41
part D text: RDQ53 GROUP; RDQS53; RDQ89 GROUP; RDQS89
part E text: LDQ53 GROUP; LDQS53; LDQ89 GROUP; LDQS89
part F text: LDQ17 GROUP; LDQS17; LDQ41 GROUP; LDQS41

## LGL29K-G2J1-24-Z
designator D?, comment Green
LED Uni-Color Green 572nm 2-Pin Chip 0603(1608Metric) T/R; Manufacturer: Osram Opto; Manufacturer Part Number: LGL29K-G2J1-24-Z; Lens Color: White; Forward Current: 20mA; Forward Voltage: 2.2V; Luminous Intensity: 5.6mcd; Viewing Angle: 160°; Lens Style: Flat,Diffused,Colorless,Rectangular; Test Current: 2mA; Dominant Wavelength: 570nm; Luminous Flux: 0.012lm; Number of LEDs: 1; Lens Transparency: Diffused; Reverse Voltage: 12V; Lens Size: 0.8mm; Supplier 1: Digi-Key; Stock 1: 159662; Pricing 1: 1=0.5, 10=0.363, 100=0.2373, 500=0.17054, 1000=0.13347, 2500=0.12235 (USD); Mount: Surface Mount; Case/Package: 0603; Number of Pins: 2; Color: Green; Case Code (Metric): 1608; Case Code (Imperial): 0603; Min Operating Temperature: -40°C; Max Operating Temperature: 100°C; Illumination Color: Green; Packaging: Tape and Reel; Package Quantity: 5000; Number of Elements: 1; Length: 1.3mm; Height: 0.65mm; Width: 0.8mm; Depth: 0.8mm; Radiation Hardening: No; ComponentLink1URL: http://www.mouser.com/ds/2/311/LG%20L29K%20-%20SMARTLED%200603-335234.pdf?src-supplier=Mouser; ComponentLink1Description: http://www.mouser.com/ds/2/311/LG%20L29K%20-%20SMARTLED%200603-335234.pdf?src-supplier=Mouser; ComponentLink2URL: https://dammedia.osram.info/media/resource/hires/osram-dam-2493945/LG%20L29K.pdf?src-supplier=Digi-Key; ComponentLink2Description: https://dammedia.osram.info/media/resource/hires/osram-dam-2493945/LG%20L29K.pdf?src-supplier=Digi-Key; ComponentLink3URL: https://www.verical.com/server-webapp/html/getDatasheet?partID=571127&src-supplier=Verical; ComponentLink3Description: https://www.verical.com/server-webapp/html/getDatasheet?partID=571127&src-supplier=Verical; Supplier Part Number 1: 475-2709-6-ND
footprint LED_0603
pins: 1 Cathode, 2 Anode

## M20-7820646
designator J?, comment HDR FMALE 1*6 2.54mm
06-WAY SIL VERT SOCKET L/FREE; Manufacturer: Harwin; Manufacturer Part Number: M20-7820646; Number of Contacts: 6; Max Current Rating: 3A; Contact Resistance: 20mR; Connector Type: Receptacle,Socket; Gender: Female; Supplier 1: Digi-Key; Stock 1: 2187; Pricing 1: 1=0.96, 36=0.79194, 108=0.72602, 504=0.59401, 1008=0.528, 5004=0.462, 10008=0.4389 (USD); Mount: Through Hole; Case/Package: SIL; Color: Black; Contact Plating: Tin; Contact Material: Bronze; Housing Color: Black; Housing Material: Nylon; Min Operating Temperature: -40°C; Max Operating Temperature: 105°C; Number of Rows: 1; Termination: Solder; Packaging: Rail/Tube; Contact Gender: Female; Package Quantity: 38; Number of Positions: 6; Orientation: Straight; Length: 15.64mm; Pitch: 2.54mm; Depth: 2.5mm; Radiation Hardening: No; Supplier Part Number 1: 952-1809-ND
footprint Hdr_Female_1*6_2.54mm
pins: 1, 2, 3, 4, 5, 6

## M20-7820842
designator J?, comment HDR FMALE 1*8 2.54mm
08-WAY SIL VERT SOCKET L/FREE; Manufacturer: Harwin; Manufacturer Part Number: M20-7820842; Number of Contacts: 8; Max Current Rating: 3A; Contact Resistance: 20mR; Connector Type: Receptacle,Socket; Gender: Female; Supplier 1: Digi-Key; Stock 1: 4198; Pricing 1: 1=1.1, 27=0.91444, 108=0.83824, 513=0.68581, 1026=0.6096, 5022=0.5334, 10017=0.50673 (USD); Mount: Through Hole; Case/Package: SIL; Weight: 0.025397oz; Contact Plating: Tin,Gold; Color: Black; Contact Material: Bronze; Housing Color: Black; Housing Material: Polyamide; Min Operating Temperature: -40°C; Max Operating Temperature: 105°C; Number of Rows: 1; Termination: Solder; Contact Gender: Female; Package Quantity: 29; Packaging: Rail/Tube; Number of Positions: 8; Orientation: Straight; Length: 20.72mm; Pitch: 2.54mm; Depth: 2.5mm; Radiation Hardening: No; ComponentLink1URL: https://cdn.harwin.com/pdfs/Harwin_PC_Connectors_M20.pdf?src-supplier=Avnet+Europe; ComponentLink1Description: https://cdn.harwin.com/pdfs/Harwin_PC_Connectors_M20.pdf?src-supplier=Avnet+Europe; ComponentLink2URL: http://www.harwin.com/include/downloads/drawings/M20-782.PDF?src-supplier=Avnet; ComponentLink2Description: http://www.harwin.com/include/downloads/drawings/M20-782.PDF?src-supplier=Avnet; Supplier Part Number 1: 952-1823-ND
footprint Hdr_Female_1*8_2.54mm
pins: 1, 2, 3, 4, 5, 6, 7, 8

## M20-7821046
designator J?, comment HDR FMALE 1*10 2.54mm
10-WAY SIL VERT SOCKET L/FREE; Manufacturer: Harwin; Manufacturer Part Number: M20-7821046; Number of Contacts: 10; Max Current Rating: 3A; Contact Resistance: 20mR; Mating Cycles: 50; Connector Type: Receptacle,Socket; Gender: Receptacle; Insulation Resistance: 1MR; Hole Diameter: 0.8mm; Supplier 1: Digi-Key; Stock 1: 415; Pricing 1: 1=1.28, 22=1.12182, 110=0.968, 506=0.792, 1012=0.704, 5016=0.616, 10010=0.5852 (USD); Mount: Through Hole; Case/Package: SIL; Color: Black; Contact Plating: Tin; Contact Material: Bronze; Housing Color: Black; Housing Material: Polyamide; Min Operating Temperature: -40°C; Max Operating Temperature: 105°C; Number of Rows: 1; Termination: Solder; Packaging: Rail/Tube; Contact Gender: Female; Package Quantity: 23; Current Rating: 3A; Number of Positions: 10; Orientation: Straight; Length: 25.8mm; Pitch: 2.54mm; Lead Pitch: 2.54mm; Depth: 2.5mm; Radiation Hardening: No; REACH SVHC: No SVHC; ComponentLink1URL: https://www.verical.com/server-webapp/html/getDatasheet?partID=559226&src-supplier=Verical; ComponentLink1Description: https://www.verical.com/server-webapp/html/getDatasheet?partID=559226&src-supplier=Verical; ComponentLink2URL: https://cdn.harwin.com/pdfs/M20-782.pdf?src-supplier=Digi-Key; ComponentLink2Description: https://cdn.harwin.com/pdfs/M20-782.pdf?src-supplier=Digi-Key; ComponentLink3URL: http://www.harwin.com/include/downloads/drawings/M20-782.PDF?src-supplier=Avnet; ComponentLink3Description: http://www.harwin.com/include/downloads/drawings/M20-782.PDF?src-supplier=Avnet; ComponentLink4URL: https://cdn.harwin.com/pdfs/Harwin_PC_Connectors_M20.pdf?src-supplier=Avnet+Europe; ComponentLink4Description: https://cdn.harwin.com/pdfs/Harwin_PC_Connectors_M20.pdf?src-supplier=Avnet+Europe; ComponentLink5URL: http://uk.rs-online.com/webdocs/1422/0900766b81422659.pdf?src-supplier=RSComponents; ComponentLink5Description: http://uk.rs-online.com/webdocs/1422/0900766b81422659.pdf?src-supplier=RSComponents; Supplier Part Number 1: 952-1847-ND
footprint Hdr_Female_1*10_2.54mm
pins: 1, 2, 3, 4, 5, 6, 7, 8, 9, 10

## MH_7.4MMC_3.2MMD
designator MH?  (value not drawn)  (no BOM)
Mounting Hole 7..4mm Diameter_3.2mm Drill
footprint MH_7.4MMC_3.2MMD
pins: 1

## MT48LC16M16A2TG-6A:GTR
designator U?, comment MT48LC16M16A2TG
IC Dram 256M Parallel 54TSOP; Manufacturer: Alliance Memory; Manufacturer Part Number: MT48LC16M16A2TG-6A:GTR; Access Time: 5.4ns; Frequency: 167MHz; Memory Type: Volatile; Memory Size: 256Mb; Supplier 1: Digi-Key; Stock 1: 0; Mount: Surface Mount; Case/Package: TSOP; Number of Pins: 54; Min Operating Temperature: 0°C; Max Operating Temperature: 70°C; Packaging: Cut Tape; Supplier Part Number 1: 1450-1352-6-ND
footprint SOP80P1176X120-54N
pins: 1 VDD_1 (power), 2 DQO, 3 VDDQ_1 (power), 4 DQ1, 5 DQ2, 6 VSSQ_1 (power), 7 DQ3, 8 DQ4, 9 VDDQ_2 (power), 10 DQ5, 11 DQ6, 12 VSSQ_2 (power), 13 DQ7, 14 VDD_2 (power), 15 DQML, 16 ~{WE}, 17 ~{CAS}, 18 ~{RAS}, 19 ~{CS} (in), 20 BAO, 21 BA1, 22 A10, 23 A0, 24 A1, 25 A2, 26 A3, 27 VDD_3 (power), 28 VSS_1 (power), 29 A4, 30 A5, 31 A6, 32 A7, 33 A8, 34 A9, 35 A11, 36 A12, 37 CKE, 38 CLK (in), 39 DQMH, 40 NC, 41 VSS_2 (power), 42 DQ8, 43 VDDQ_3 (power), 44 DQ9, 45 DQ10, 46 VSSQ_3 (power), 47 DQ11, 48 DQ12, 49 VDDQ_4 (power), 50 DQ13, 51 DQ14, 52 VSSQ_4 (power), 53 DQ15, 54 VSS_3 (power)

## RC0603FR-071K1L
designator R?, comment 1.1K
RES SMD 1.1K OHM 1% 1/10W 0603; Manufacturer: Yageo; Manufacturer Part Number: RC0603FR-071K1L; Power Rating: 100mW; Temperature Coefficient: 100ppm/°C; Resistance: 1.1kR; Voltage Rating: 50V; Supplier 1: Digi-Key; Stock 1: 534181; Pricing 1: 1=0.1, 10=0.023, 100=0.0094, 1000=0.00421, 2500=0.00366 (USD); Case/Package: 0603; Number of Pins: 2; Case Code (Metric): 1608; Case Code (Imperial): 0603; Min Operating Temperature: -55°C; Max Operating Temperature: 155°C; Tolerance: 1%; Package Quantity: 1; Packaging: Tape and Reel; Composition: Thick Film; Number of Terminations: 2; Termination: SMD/SMT; Military Standard: Not; Max Power Dissipation: 100mW; Voltage Rating (DC): 50V; Features: Moisture Resistant; Length: 1.6mm; Height: 0.022inch; Depth: 0.8mm; Width: 0.031inch; REACH SVHC: No SVHC; Lead Free: Lead Free; ComponentLink1URL: http://www.yageo.com/documents/recent/PYu-RC_Group_51_RoHS_L_10.pdf?src-supplier=Digi-Key; ComponentLink1Description: http://www.yageo.com/documents/recent/PYu-RC_Group_51_RoHS_L_10.pdf?src-supplier=Digi-Key; ComponentLink2URL: http://www.yageo.com/documents/recent/PYu-RC_Group_51_RoHS_L_9.pdf?src-supplier=Digi-Key; ComponentLink2Description: http://www.yageo.com/documents/recent/PYu-RC_Group_51_RoHS_L_9.pdf?src-supplier=Digi-Key; Supplier Part Number 1: 311-1.10KHRDKR-ND
footprint R0603
pins: 1, 2

## RC0603FR-073K3L
designator R?, comment 3.3K
YAGEO - RC0603FR-073K3L - SMD Chip Resistor, 0603 [1608 Metric], 3.3 kohm, RC Series, 75 V, Thick Film, 100 mW; Resistance: 3.3kR; Tolerance: 1%; Temperature Coefficient: 100ppm/°C; Voltage Rating (DC): 50V; Power Rating: 100mW; Supplier 1: Digi-Key; Manufacturer: Yageo; Manufacturer Part Number: RC0603FR-073K3L; Stock 1: 1337597; Pricing 1: 1=0.1, 10=0.023, 100=0.0094, 1000=0.00421, 2500=0.00366 (USD); Case/Package: 0603; Number of Pins: 2; Case Code (Imperial): 0603; Case Code (Metric): 1608; Min Operating Temperature: -55°C; Max Operating Temperature: 155°C; Packaging: Tape and Reel; Composition: Thick Film; Voltage Rating: 50V; Package Quantity: 1; Termination: SMD/SMT; Number of Terminations: 2; Military Standard: Not; Max Power Dissipation: 100mW; Features: Moisture Resistant; Length: 1.6mm; Height: 0.45mm; Width: 0.8mm; Depth: 0.8mm; REACH SVHC: No SVHC; Lead Free: Lead Free; ComponentLink1URL: http://www.yageo.com/documents/recent/PYu-RC_Group_51_RoHS_L_10.pdf?src-supplier=Digi-Key; ComponentLink1Description: http://www.yageo.com/documents/recent/PYu-RC_Group_51_RoHS_L_10.pdf?src-supplier=Digi-Key; ComponentLink2URL: http://www.farnell.com/datasheets/2167052.pdf?src-supplier=Element14; ComponentLink2Description: http://www.farnell.com/datasheets/2167052.pdf?src-supplier=Element14; ComponentLink3URL: http://www.farnell.com/datasheets/1686128.pdf?src-supplier=Element14; ComponentLink3Description: http://www.farnell.com/datasheets/1686128.pdf?src-supplier=Element14; ComponentLink4URL: http://www.farnell.com/datasheets/1868787.pdf?src-supplier=Element14; ComponentLink4Description: http://www.farnell.com/datasheets/1868787.pdf?src-supplier=Element14; Supplier Part Number 1: 311-3.30KHRDKR-ND
footprint R0603
pins: 1, 2

## RC0603FR-074K7L
designator R?, comment 4.7K
RES SMD 4.7K OHM 1% 1/10W 0603; Manufacturer: Yageo; Manufacturer Part Number: RC0603FR-074K7L; Resistance: 4.7kR; Temperature Coefficient: 100ppm/°C; Power Rating: 100mW; Voltage Rating (DC): 50V; Supplier 1: Digi-Key; Stock 1: 1446473; Pricing 1: 1=0.1, 10=0.023, 100=0.0094, 1000=0.00421, 2500=0.00366 (USD); Case/Package: 0603; Number of Pins: 2; Case Code (Imperial): 0603; Case Code (Metric): 1608; Min Operating Temperature: -55°C; Max Operating Temperature: 155°C; Tolerance: 1%; Composition: Thick Film; Packaging: Tape and Reel; Voltage Rating: 50V; Termination: SMD/SMT; Military Standard: Not; Length: 1.6mm; Height: 0.45mm; Width: 0.8mm; Depth: 0.8mm; Lead Pitch: 0.3mm; REACH SVHC: No SVHC; Lead Free: Lead Free; ComponentLink1URL: https://www.verical.com/server-webapp/html/getDatasheet?partID=422754&src-supplier=Verical; ComponentLink1Description: https://www.verical.com/server-webapp/html/getDatasheet?partID=422754&src-supplier=Verical; ComponentLink2URL: http://www.farnell.com/datasheets/2167052.pdf?src-supplier=Element14; ComponentLink2Description: http://www.farnell.com/datasheets/2167052.pdf?src-supplier=Element14; ComponentLink3URL: http://www.farnell.com/datasheets/38590.pdf?src-supplier=Element14; ComponentLink3Description: http://www.farnell.com/datasheets/38590.pdf?src-supplier=Element14; ComponentLink4URL: http://www.farnell.com/datasheets/1868787.pdf?src-supplier=Element14; ComponentLink4Description: http://www.farnell.com/datasheets/1868787.pdf?src-supplier=Element14; Supplier Part Number 1: 311-4.70KHRCT-ND
footprint R0603
pins: 1, 2

## RC0603FR-0710KL
designator R?, comment 10K
Res General Purpose Thick Film 0603 10K Ohm 1% 1/10W ±100ppm/°C Molded SMD Paper T/R; Manufacturer: Yageo; Manufacturer Part Number: RC0603FR-0710KL; Resistance: 10kR; Voltage Rating (DC): 50V; Power Rating: 100mW; Voltage Rating: 75V; Supplier 1: Digi-Key; Stock 1: 1155; Pricing 1: 1=0.1, 10=0.023, 100=0.0094, 1000=0.00421, 2500=0.00366 (USD); Case/Package: 0603; Number of Pins: 2; Weight: 7.1E-05oz; Case Code (Imperial): 0603; Case Code (Metric): 1608; Min Operating Temperature: -55°C; Max Operating Temperature: 155°C; Tolerance: 1%; Composition: Thick Film; Temperature Coefficient: 100ppm/°C; Packaging: Tape and Reel; Military Standard: Not; Termination: SMD/SMT; Length: 1.6mm; Height: 0.45mm; Width: 0.8mm; Depth: 0.8mm; Lead Pitch: 0.3mm; REACH SVHC: No SVHC; Lead Free: Lead Free; ComponentLink1URL: http://www.farnell.com/datasheets/38590.pdf?src-supplier=Element14; ComponentLink1Description: http://www.farnell.com/datasheets/38590.pdf?src-supplier=Element14; ComponentLink2URL: https://www.verical.com/server-webapp/html/getDatasheet?partID=409289&src-supplier=Verical; ComponentLink2Description: https://www.verical.com/server-webapp/html/getDatasheet?partID=409289&src-supplier=Verical; ComponentLink3URL: http://www.farnell.com/datasheets/1868787.pdf?src-supplier=Element14; ComponentLink3Description: http://www.farnell.com/datasheets/1868787.pdf?src-supplier=Element14; ComponentLink4URL: http://www.farnell.com/datasheets/2167052.pdf?src-supplier=Element14; ComponentLink4Description: http://www.farnell.com/datasheets/2167052.pdf?src-supplier=Element14; ComponentLink5URL: http://www.farnell.com/datasheets/443971.pdf?src-supplier=Element14; ComponentLink5Description: http://www.farnell.com/datasheets/443971.pdf?src-supplier=Element14; Supplier Part Number 1: 311-10.0KHRDKR-ND
footprint R0603
pins: 1, 2

## RC0603FR-0715KL
designator R?, comment 15K
Res Thick Film 0603 15K Ohm 1% 1/10W ?100ppm/?C Molded SMD Paper T/R; Manufacturer: Yageo; Manufacturer Part Number: RC0603FR-0715KL; Temperature Coefficient: 100ppm/°C; Resistance: 15kR; Power Rating: 100mW; Voltage Rating (DC): 50V; Supplier 1: Digi-Key; Stock 1: 3342455; Pricing 1: 1=0.1, 10=0.023, 100=0.0094, 1000=0.00421, 2500=0.00366 (USD); Case/Package: 0603; Number of Pins: 2; Case Code (Metric): 1608; Case Code (Imperial): 0603; Min Operating Temperature: -55°C; Max Operating Temperature: 155°C; Tolerance: 1%; Composition: Thick Film; Packaging: Tape and Reel; Package Quantity: 1; Voltage Rating: 50V; Number of Terminations: 2; Termination: SMD/SMT; Military Standard: Not; Max Power Dissipation: 100mW; Features: Moisture Resistant; Length: 1.6mm; Height: 0.022inch; Width: 0.031inch; Depth: 0.8mm; Lead Free: Lead Free; REACH SVHC: Unknown; ComponentLink1URL: http://www.yageo.com/documents/recent/PYu-RC_Group_51_RoHS_L_10.pdf?src-supplier=Digi-Key; ComponentLink1Description: http://www.yageo.com/documents/recent/PYu-RC_Group_51_RoHS_L_10.pdf?src-supplier=Digi-Key; ComponentLink2URL: http://www.yageo.com/documents/recent/PYu-RC_Group_51_RoHS_L_9.pdf?src-supplier=Digi-Key; ComponentLink2Description: http://www.yageo.com/documents/recent/PYu-RC_Group_51_RoHS_L_9.pdf?src-supplier=Digi-Key; ComponentLink3URL: https://www.verical.com/server-webapp/html/getDatasheet?partID=327895&src-supplier=Verical; ComponentLink3Description: https://www.verical.com/server-webapp/html/getDatasheet?partID=327895&src-supplier=Verical; Supplier Part Number 1: 311-15.0KHRCT-ND
footprint R0603
pins: 1, 2

## RC0603FR-0718KL
designator R?, comment 18K
YAGEO (PHYCOMP) - RC0603FR-0718KL - SMD Chip Resistor, 0603 [1608 Metric], 18 kohm, RC Series, 75 V, Thick Film, 100 mW; Resistance: 18kR; Power Rating: 100mW; Tolerance: 1%; Voltage Rating: 75V; Voltage Rating (DC): 50V; Temperature Coefficient: 100ppm/°C; Supplier 1: Digi-Key; Manufacturer: Yageo; Manufacturer Part Number: RC0603FR-0718KL; Stock 1: 0; Pricing 1: 1=0.1, 10=0.023, 100=0.0094, 1000=0.00421, 2500=0.00366 (USD); Case/Package: 0603; Number of Pins: 2; Weight: 7.1E-05oz; Case Code (Imperial): 0603; Case Code (Metric): 1608; Min Operating Temperature: -55°C; Max Operating Temperature: 155°C; Composition: Thick Film; Packaging: Tape and Reel; Termination: SMD/SMT; Military Standard: Not; Length: 1.6mm; Height: 0.45mm; Width: 0.8mm; Depth: 0.8mm; REACH SVHC: Unknown; Lead Free: Lead Free; ComponentLink1URL: http://documents.rs-components.com/techlib://itc_doclist_GB.htm?stockno=5049959&src-supplier=RSComponents; ComponentLink1Description: http://documents.rs-components.com/techlib://itc_doclist_GB.htm?stockno=5049959&src-supplier=RSComponents; ComponentLink2URL: https://www.verical.com/server-webapp/html/getDatasheet?partID=325162&src-supplier=Verical; ComponentLink2Description: https://www.verical.com/server-webapp/html/getDatasheet?partID=325162&src-supplier=Verical; ComponentLink3URL: http://www.farnell.com/datasheets/2167052.pdf?src-supplier=Element14; ComponentLink3Description: http://www.farnell.com/datasheets/2167052.pdf?src-supplier=Element14; ComponentLink4URL: http://www.farnell.com/datasheets/1868787.pdf?src-supplier=Element14; ComponentLink4Description: http://www.farnell.com/datasheets/1868787.pdf?src-supplier=Element14; Supplier Part Number 1: 311-18.0KHRDKR-ND
footprint R0603
pins: 1, 2